# Altium schematic symbol library SM06B-NSHSS-TB.SchLib: 1 symbol
Pins are listed as number, name and electrical type; pins without a type are passive.

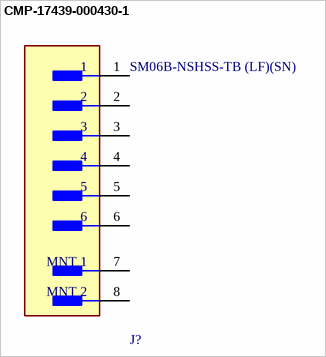
[diagram p0: symbol CMP-17439-000430-1]

## CMP-17439-000430-1
designator J?, comment SM06B-NSHSS-TB (LF)(SN)
CONN HEADER SMD R/A 6POS 1MM; Number of Positions: 6; Voltage Rating: 50V; Pitch: 0.039inch; Connector Type: Header; Contact Finish - Mating: TIN; Flammability Rating: UL94 V-0; Series: NSH; Lead Free: Lead Free; Fastening Type: Latch; Insulation Color: Natural; Insulation Material: Nylon; Mount: Surface Mount; Min Operating Temperature: -25°C; Contact Type: Male Pin; Max Operating Temperature: 85°C; Contact Material: Copper Alloy; Packaging: Cut Tape; Color: Natural; Termination: Solder; Contact Plating: Tin; Number of Rows: 1
footprint FP-SM06B-NSHSS-TB_LF_SN-MFG
pins: 1, 2, 3, 4, 5, 6, 7 MNT 1, 8 MNT 2